# Altium footprint library Seeed-OPL-Inductor.PCBLIB: 25 footprints (part 2 of 2)
Each footprint in its own frame and in the unit in brackets; x right, y up, seen from the top. Pads: shape width x height; smd on the part's side, far side on the other; paste and mask are expansions set on the pad; w line width, h text height; cw(c..) or ccw(c..) is an arc to the next point about the centre after c.
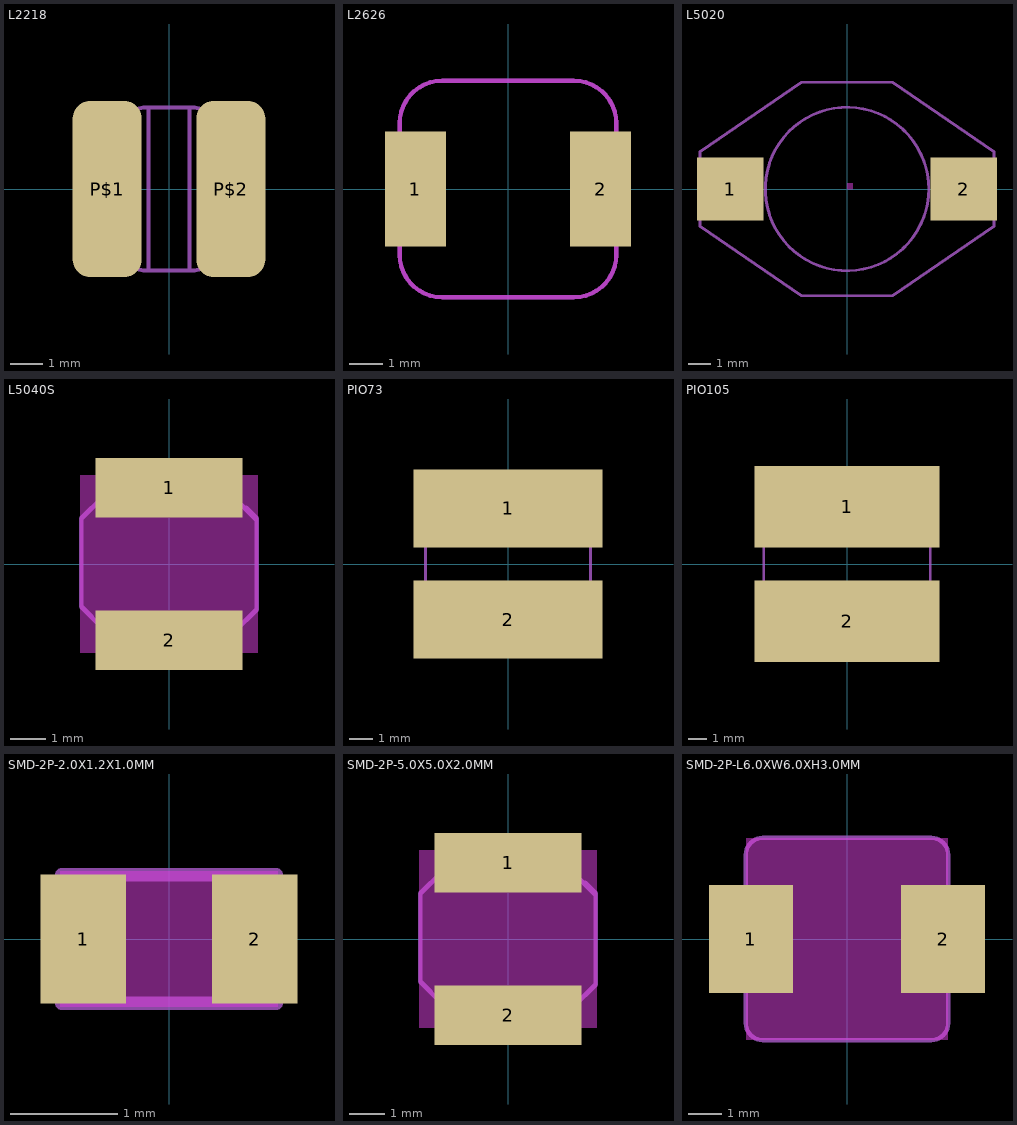
[diagram p1: the footprints below, top view; thin cyan lines are the x and y axes]

## L2218 [mil]
pads (2):
  rrect50% 84.65x216.54 smd: P$1(-75.79,0) P$2(75.79,0)
Mechanical 2:
  lines w5: -25,-100 -25,100 25,100 25,-100 -25,-100
Mechanical 18:
  lines w5: -31.5,-100 -23.62,-100 ; -31.5,100 -23.62,100 ; -25,-100 cw(c-25,-25) -100,-25 ccw(c-100,0) -75,0 ccw(c-100,0) -100,25 cw(c-25,25) -25,100 ; 23.62,-100 31.5,-100 ; 23.62,100 31.5,100 ; 25,-100 ccw(c25,-25) 100,-25 cw(c100,0) 75,0 cw(c100,0) 100,25 ccw(c25,25) 25,100

## L2626 [mil]
pads (2):
  rect 72x135 smd: 1(-109,0) 2(109,0)
Keep-Out Layer:
  lines w5: -127.5,-77.5 ccw(c-77.5,-77.5) -77.5,-127.5 77.5,-127.5 ccw(c77.5,-77.5) 127.5,-77.5 127.5,77.5 ccw(c77.5,77.5) 77.5,127.5 -77.5,127.5 ccw(c-77.5,77.5) -127.5,77.5 -127.5,-77.5
Mechanical 2:
  lines w5: -127.5,-77.5 ccw(c-77.5,-77.5) -77.5,-127.5 77.5,-127.5 ccw(c77.5,-77.5) 127.5,-77.5 ; -127.5,77.5 cw(c-77.5,77.5) -77.5,127.5 77.5,127.5 cw(c77.5,77.5) 127.5,77.5
Mechanical 18:
  lines w5: -127.5,-77.5 -127.5,77.5 ; 127.5,-77.5 127.5,77.5

## L5020 [mm]
pads (2):
  rect 2.92x2.79 smd: 1(-5.145,0) 2(5.145,0)
Keep-Out Layer:
  region: 0,0 0.254,0 0.254,0.254 0,0.254
Mechanical 2:
  circle w0.127: c0,0 r3.6
  lines w0.127: -6.475,-1.645 -2,-4.7 2,-4.7 6.475,-1.64 ; -6.475,-1.6 -6.475,-1.5 ; -6.475,1.5 -6.475,1.6 ; -6.475,1.64 -2,4.7 2,4.7 6.475,1.64 ; 6.475,-1.6 6.475,-1.5 ; 6.475,1.5 6.475,1.6
Mechanical 18:
  lines w0.127: -6.475,-1.64 -6.475,1.64 ; 6.475,-1.64 6.475,1.64

## L5040S [mm]
pads (2):
  rect 4.2x1.7 smd: 1(0,2.175) 2(0,-2.175)
Keep-Out Layer:
  rectangle: -2.54,-2.54 2.54,2.54
Mechanical 2:
  lines w0.127: -2.5,-1.224 -2.5,-1.2 ; -2.5,1.286 -2.5,-1.2 ; -2.5,1.3 -2.2,1.6 ; -2.2,-1.5 -2.5,-1.2 ; 2.2,-1.6 2.5,-1.3 ; 2.2,1.6 2.5,1.3 2.5,1.247 2.5,1.2 2.5,-1.286
Mechanical 16:
  lines w0.127: 1.286,-2.5 2.5,-1.286
Mechanical 18:
  lines w0.127: -2.5,-1.224 -1.224,-2.5 1.286,-2.5 ; -2.5,1.286 -1.286,2.5 1.247,2.5 2.5,1.247

## PIO73 [mm]
pads (2):
  rect 8x3.3 smd: 1(0,2.35) 2(0,-2.35)
Mechanical 2:
  lines w0.127: -3.5,-0.6 -3.5,0.7 ; 3.5,-0.6 3.5,0.6
Mechanical 18:
  lines w0.127: -3.5,-2 -3.5,2 cw(c-1.3,1.7) -1,3.9 ccw(c0,3.9) 1,3.9 cw(c1.3,1.7) 3.5,2 3.5,-2 cw(c1.3,-1.7) 1,-3.9 ccw(c0,-3.9) -1,-3.9 cw(c-1.3,-1.7) -3.5,-2

## PIO105 [mil]
pads (2):
  rect 393.7x173.23 smd: 1(0,122.05) 2(0,-122.05)
Mechanical 2:
  lines w5: -177.17,-31.5 -177.17,27.56 ; 177.17,-27.56 177.17,27.56
Mechanical 18:
  lines w5: -177.17,-100 -177.17,100 cw(c-65.16,84.84) -50,196.85 ccw(c0,196.85) 50,196.85 cw(c65.16,84.84) 177.17,100 177.17,-100 cw(c65.16,-84.84) 50,-196.85 ccw(c0,-196.85) -50,-196.85 cw(c-65.16,-84.84) -177.17,-100

## SMD-2P-2.0X1.2X1.0MM [mil]
pads (2):
  rect 31.5x47.24 smd: 1(-31.5,0) 2(31.5,0)
Keep-Out Layer:
  rectangle: -40,-25 40,25
Mechanical 2:
  lines w5: -11.81,-23.62 11.81,-23.62 ; -11.81,23.62 11.81,23.62
Mechanical 18:
  lines w5: -39.37,-23.62 39.37,-23.62 39.37,23.62 -39.37,23.62 -39.37,-23.62

## SMD-2P-5.0X5.0X2.0MM [mm]
pads (2):
  rect 4.2x1.7 smd: 1(0,2.175) 2(0,-2.175)
Keep-Out Layer:
  rectangle: -2.54,-2.54 2.54,2.54
Mechanical 2:
  lines w0.127: -2.5,-1.224 -2.5,1.286 ; 2.5,-1.286 2.5,1.247
Mechanical 18:
  lines w0.127: -2.5,-1.224 -1.224,-2.5 1.286,-2.5 2.5,-1.286 ; -2.5,-1.2 -2.2,-1.5 ; -2.5,1.286 -1.286,2.5 1.247,2.5 2.5,1.247 ; -2.5,1.3 -2.2,1.6 ; 2.2,-1.6 2.5,-1.3 ; 2.2,1.6 2.5,1.3 2.5,1.2

## SMD-2P-L6.0XW6.0XH3.0MM [mil]
pads (2):
  rect 98.43x125.98 smd: 1(-112.2,0) 2(112.2,0)
Keep-Out Layer:
  rectangle: -118.11,-118.11 118.11,118.11
Mechanical 2:
  lines w5: -118.11,-66.93 -118.11,-98.43 ccw(c-98.43,-98.43) -98.43,-118.11 98.43,-118.11 ccw(c98.43,-98.43) 118.11,-98.43 118.11,-66.93 ; -118.11,66.93 -118.11,98.43 cw(c-98.43,98.43) -98.43,118.11 98.43,118.11 cw(c98.43,98.43) 118.11,98.43 118.11,66.93
Mechanical 18:
  lines w5: -118.11,-98.43 -118.11,98.43 ; 118.11,-98.43 118.11,66.93 118.11,98.43